# EAGLE library part PRESSURE_SENSOR_MS5803_14BA_BREAKOUT (library Sparkfun)
Pressure Sensor - MS5803-14BA Breakout Pressure Sensor - MS5803-14BA Breakout Further information:https://www.sparkfun.com/products/12909 Cost:$59.95
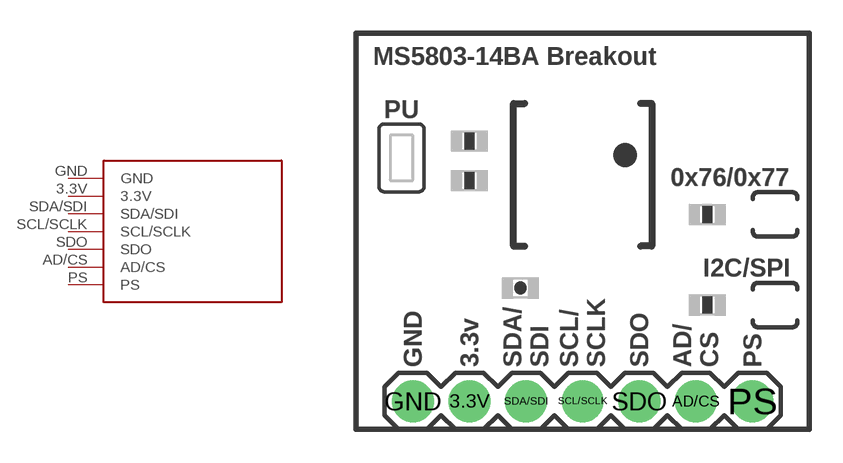
[diagram p0: symbol with the pads of PRESSURE_SENSOR_MS5803_14BA_BREAKOUT; footprint PRESSURE_SENSOR_MS5803_14BA_BREAKOUT]

Designator prefix -

## PRESSURE_SENSOR_MS5803_14BA_BREAKOUT-BOB  [PRESSURE_SENSOR_MS5803_14BA_BREAKOUT]
3.3V  3.3V
AD/CS  AD/CS
GND  GND
PS  PS
SCL/SCLK  SCL/SCLK
SDA/SDI  SDA/SDI
SDO  SDO

## Footprint PRESSURE_SENSOR_MS5803_14BA_BREAKOUT (pad centres in mm)
drill 1.016 pad 1.88: 3.3V 5.08,1.27; AD/CS 15.24,1.27; GND 2.54,1.27; PS 17.78,1.27; SCL/SCLK 10.16,1.27; SDA/SDI 7.62,1.27; SDO 12.7,1.27